# EAGLE library part USDCARD (library CEDTv78)
Amphenol Micro SD None Push Connector Part No: - 114-00841-68-1-ND
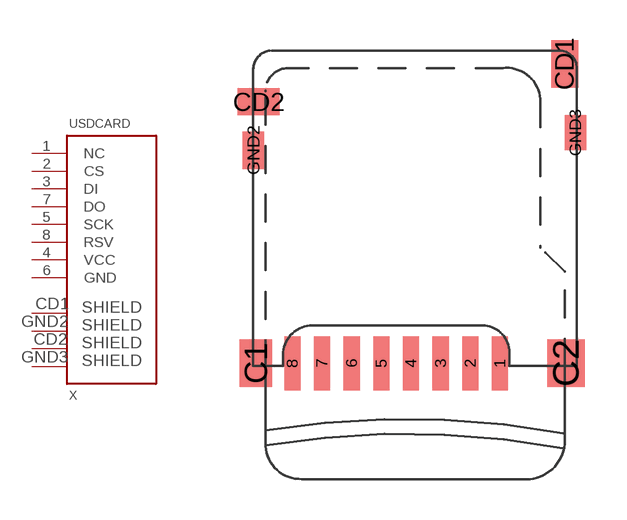
[diagram p38: symbol with the pads of USD-SOCKET-PUSHTYPE; footprint USD-SOCKET-PUSHTYPE]

Designator prefix X

## USDCARD  [USD-SOCKET-PUSHTYPE]
1  NC  pas
2  CS
3  DI  in
4  VCC  pwr
5  SCK  in
6  GND  pwr
7  DO  out
8  RSV  pas
CD1  CD1  pas
CD2  CD2  pas
GND2  GND2  pas
GND3  GND3  pas

## Footprint USD-SOCKET-PUSHTYPE (pad centres in mm)
smd 0.6 x 2: 1 9.15,4.3; 2 8.05,4.3; 3 6.95,4.3; 4 5.85,4.3; 5 4.75,4.3; 6 3.65,4.3; 7 2.55,4.3; 8 1.45,4.3
smd 1.2 x 1.75: C1 0.1,4.3
smd 1.4 x 1.75: C2 11.6,4.3
smd 1 x 1.75: CD1 11.55,15.4
smd 1.55 x 1: CD2 0.2,14
smd 0.8 x 1.4: GND2 0,12.2
smd 0.8 x 1.3: GND3 11.95,12.85